# Altium footprint library DIP1556W56P254L3702H483Q28N.PcbLib: 1 footprints
Each footprint in its own frame and in the unit in brackets; x right, y up, seen from the top. Pads: shape width x height; smd on the part's side, far side on the other; paste and mask are expansions set on the pad; w line width, h text height; cw(c..) or ccw(c..) is an arc to the next point about the centre after c.
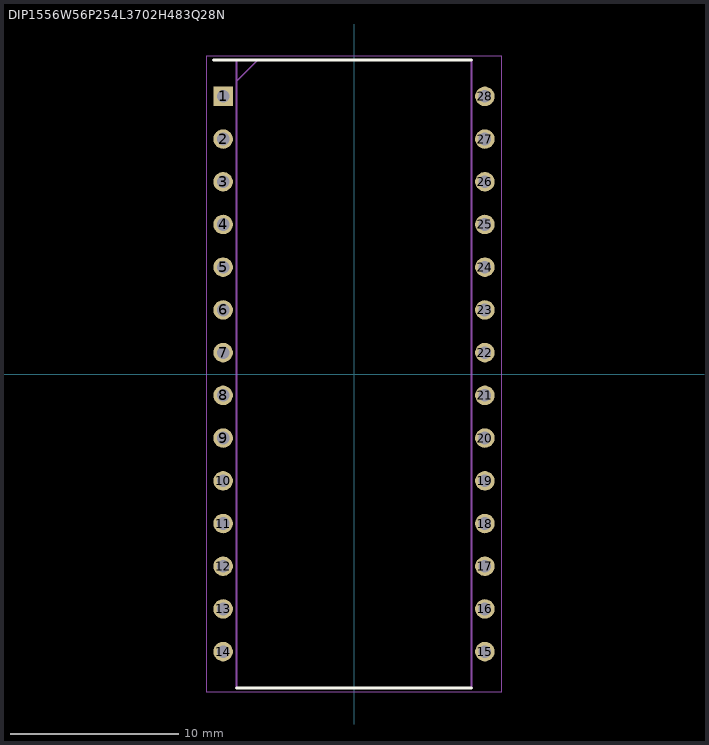
[diagram p0: the footprint, top view; thin cyan lines are the x and y axes]

## DIP1556W56P254L3702H483Q28N [mil]
pads (28):
  rect 45.63x45.63 / inner round 45.63 / far side rect 45.63x45.63 hole 29.88: 1(-306.26,650)
  round 45.63 hole 29.88: 2(-306.26,550) 3(-306.26,450) 4(-306.26,350) 5(-306.26,250) 6(-306.26,150) 7(-306.26,50) 8(-306.26,-50) 9(-306.26,-150) 10(-306.26,-250) 11(-306.26,-350) 12(-306.26,-450) 13(-306.26,-550) 14(-306.26,-650) 15(306.26,-650) 16(306.26,-550) 17(306.26,-450) 18(306.26,-350) 19(306.26,-250) 20(306.26,-150) 21(306.26,-50) 22(306.26,50) 23(306.26,150) 24(306.26,250) 25(306.26,350) 26(306.26,450) 27(306.26,550) 28(306.26,650)
Top Overlay:
  lines w7.87: -329.06,735 275,735 ; -275,-735 275,-735
Mechanical 15:
  lines w3.94: -275,685 -225,735 ; -275,-735 275,-735 275,735 -275,735 -275,-735
Mechanical 20:
  lines w1.97: -345.16,-744.84 345.16,-744.84 345.16,744.84 -345.16,744.84 -345.16,-744.84